# Altium schematic symbol library Samsung-MLCC-0805.SchLib: 9 symbols
Pins are listed as number, name and electrical type; pins without a type are passive.

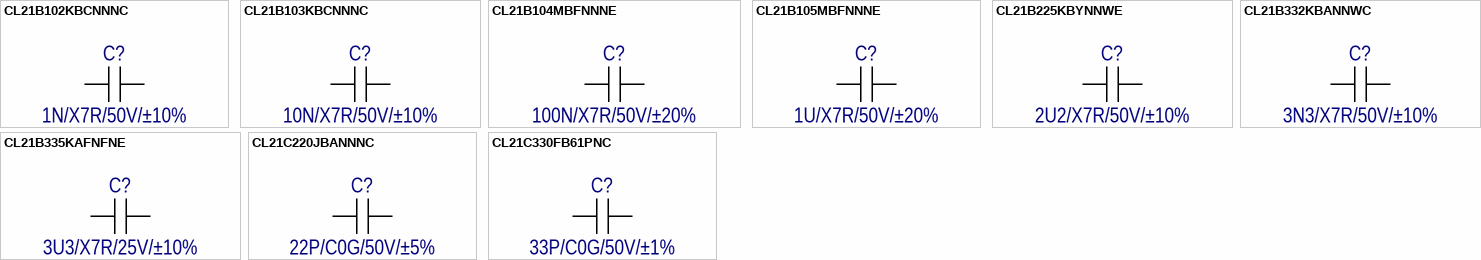
[diagram p0: symbols CL21B102KBCNNNC to CL21C330FB61PNC]

## CL21B102KBCNNNC
designator C?  value 1N/X7R/50V/±10%  (hidden comment: *)
Ceramic Capacitor SMD 0805; Manufacturer: SAMSUNG ELECTRO-MECHANICS
footprint Normal_Capacitor_Standard_0805-L2000-W1250-BW500-H850
footprint Normal_Capacitor_Standard_0805-L2000-W1250-BW500-H850 - OVERLAY
pins: 1, 2

## CL21B103KBCNNNC
designator C?  value 10N/X7R/50V/±10%  (hidden comment: *)
Ceramic Capacitor SMD 0805; Manufacturer: SAMSUNG ELECTRO-MECHANICS
footprint Normal_Capacitor_Standard_0805-L2000-W1250-BW500-H850
footprint Normal_Capacitor_Standard_0805-L2000-W1250-BW500-H850 - OVERLAY
pins: 1, 2

## CL21B104MBFNNNE
designator C?  value 100N/X7R/50V/±20%  (hidden comment: *)
Ceramic Capacitor SMD 0805; Manufacturer: SAMSUNG ELECTRO-MECHANICS
footprint Normal_Capacitor_Standard_0805-L2000-W1250-BW500-H1350
footprint Normal_Capacitor_Standard_0805-L2000-W1250-BW500-H1350 - OVERLAY
pins: 1, 2

## CL21B105MBFNNNE
designator C?  value 1U/X7R/50V/±20%  (hidden comment: *)
Ceramic Capacitor SMD 0805; Manufacturer: SAMSUNG ELECTRO-MECHANICS
footprint Normal_Capacitor_Standard_0805-L2000-W1250-BW500-H1350
footprint Normal_Capacitor_Standard_0805-L2000-W1250-BW500-H1350 - OVERLAY
pins: 1, 2

## CL21B225KBYNNWE
designator C?  value 2U2/X7R/50V/±10%  (hidden comment: *)
Ceramic Capacitor SMD 0805; Manufacturer: SAMSUNG ELECTRO-MECHANICS
footprint Normal_Capacitor_Standard_0805-L2000-W1250-BW500-H1250
footprint Normal_Capacitor_Standard_0805-L2000-W1250-BW500-H1250 - OVERLAY
pins: 1, 2

## CL21B332KBANNWC
designator C?  value 3N3/X7R/50V/±10%  (hidden comment: *)
Ceramic Capacitor SMD 0805; Manufacturer: SAMSUNG ELECTRO-MECHANICS
footprint Normal_Capacitor_Standard_0805-L2000-W1250-BW500-H650
footprint Normal_Capacitor_Standard_0805-L2000-W1250-BW500-H650 - OVERLAY
pins: 1, 2

## CL21B335KAFNFNE
designator C?  value 3U3/X7R/25V/±10%  (hidden comment: *)
Ceramic Capacitor SMD 0805; Manufacturer: SAMSUNG ELECTRO-MECHANICS
footprint Normal_Capacitor_Standard_0805-L2000-W1250-BW500-H1250
footprint Normal_Capacitor_Standard_0805-L2000-W1250-BW500-H1250 - OVERLAY
pins: 1, 2

## CL21C220JBANNNC
designator C?  value 22P/C0G/50V/±5%  (hidden comment: *)
Ceramic Capacitor SMD 0805; Manufacturer: SAMSUNG ELECTRO-MECHANICS
footprint Normal_Capacitor_Standard_0805-L2000-W1250-BW500-H750
footprint Normal_Capacitor_Standard_0805-L2000-W1250-BW500-H750 - OVERLAY
pins: 1, 2

## CL21C330FB61PNC
designator C?  value 33P/C0G/50V/±1%  (hidden comment: *)
Ceramic Capacitor SMD 0805; Manufacturer: SAMSUNG ELECTRO-MECHANICS
footprint Normal_Capacitor_Standard_0805-L2000-W1250-BW500-H650
footprint Normal_Capacitor_Standard_0805-L2000-W1250-BW500-H650 - OVERLAY
pins: 1, 2